# Altium schematic symbol library EsteemPCB_SOM_Course_schlib.SchLib: 243 symbols (part 2 of 3)
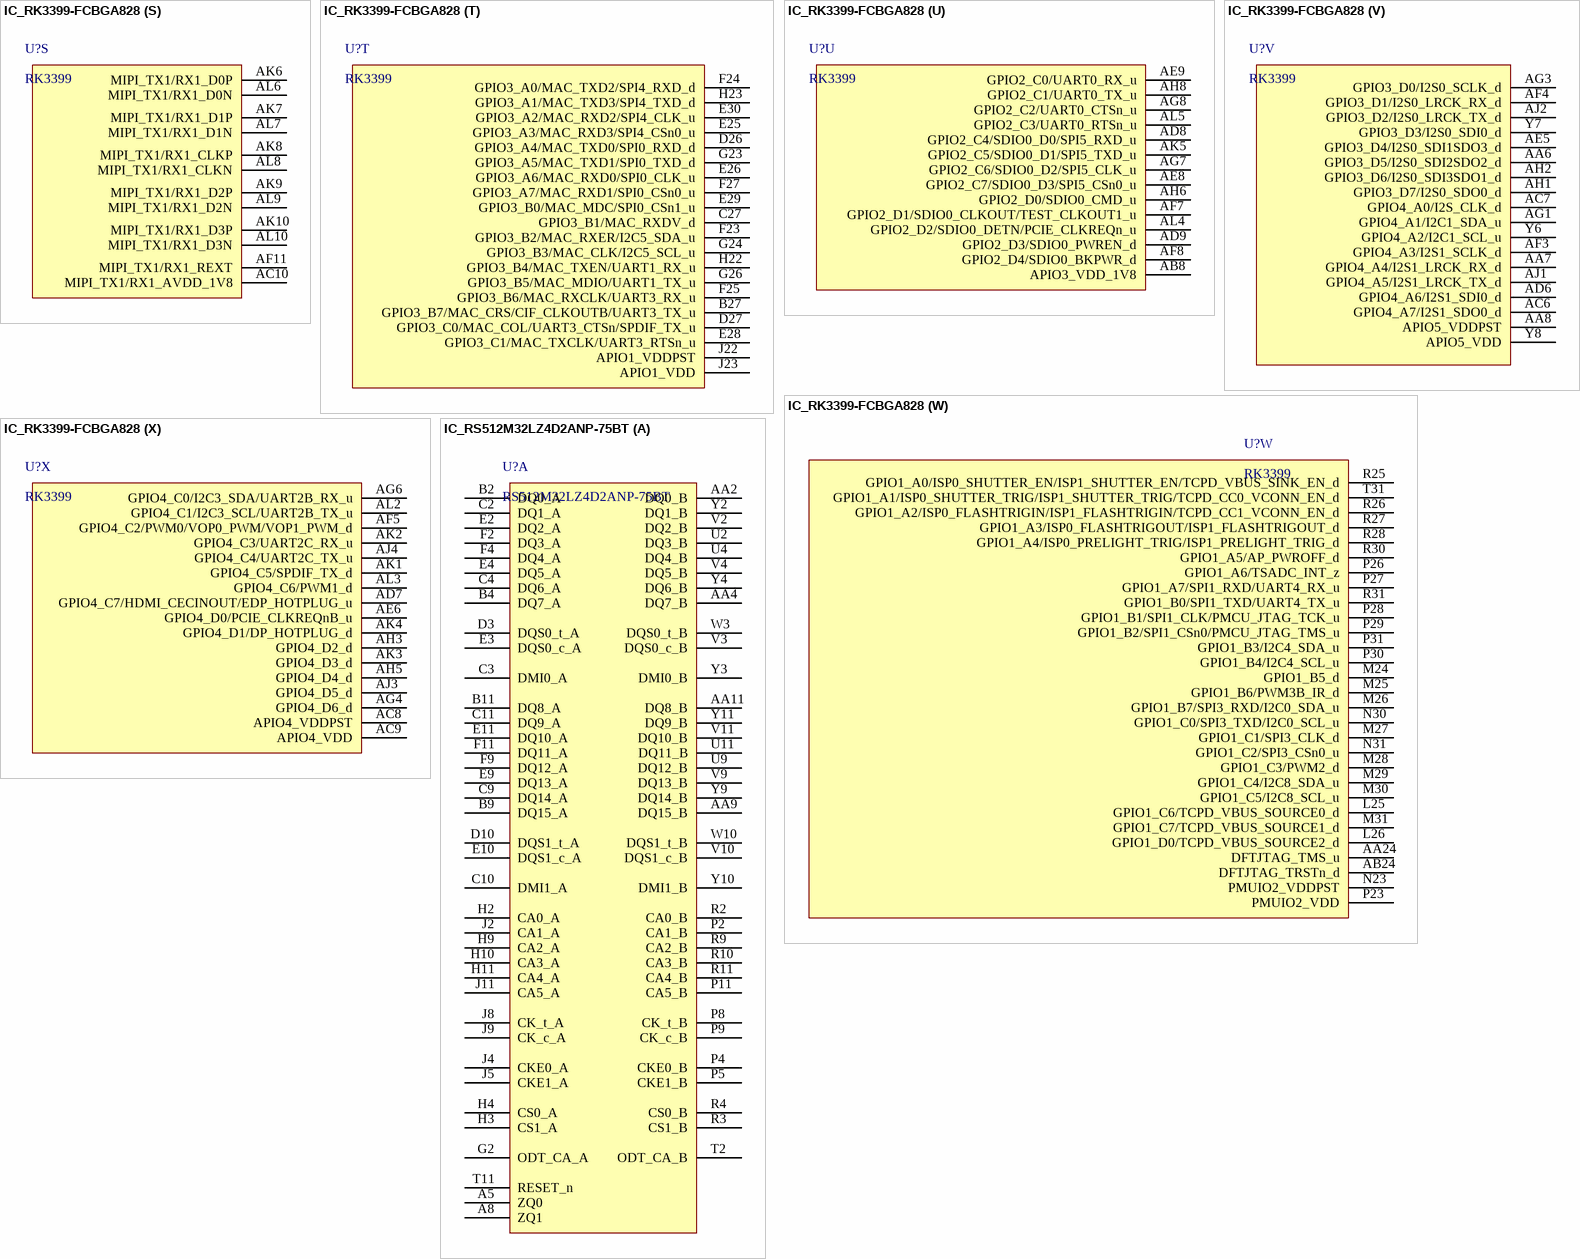
[diagram p11: symbols IC_RK3399-FCBGA828 to IC_RS512M32LZ4D2ANP-75BT]

## IC_RK3399-FCBGA828
designator U?, comment RK3399
RK3399 is a low power, high performance processor for computing, personal mobile.; Manufacturer: Rockchip; Manufacturer Part Number: RK3399; Case/Package: FCBGA828; Supplier-1: Rockchip
footprint FBGA828_23_826X826 (RK3399)
part A pins: K19 BIGCPU_VDD_12, K21 BIGCPU_VDD_13, L17 LOGIC_VDD_10, L18 BIGCPU_VDD_8, L19 BIGCPU_VDD_1, L21 BIGCPU_VDD_2, L23 BIGCPU_VDD_11, M11 CENTERLOGIC_VDD_1, M12 CENTERLOGIC_VDD_2, M13 CENTERLOGIC_VDD_3, M14 CENTERLOGIC_VDD_4, M15 CENTERLOGIC_VDD_5, M17 LOGIC_VDD_9, M18 BIGCPU_VDD_3, M19 BIGCPU_VDD_4, M20 BIGCPU_VDD_5, M21 BIGCPU_VDD_6, M22 BIGCPU_VDD_7, N11 CENTERLOGIC_VDD_6, N12 CENTERLOGIC_VDD_7, N18 BIGCPU_VDD_COM, N20 BIGCPU_VDD_10, N22 BIGCPU_VDD_9, P13 CENTERLOGIC_VDD_8, P14 CENTERLOGIC_VDD_9, P15 CENTERLOGIC_VDD_10, P20 LITCPU_VDD_1, P22 LITCPU_VDD_4, R11 GPU_VDD_8, R12 GPU_VDD_9, R13 GPU_VDD_13, R19 LITCPU_VDD_2, R20 LITCPU_VDD_3, R22 LITCPU_VDD_7, T11 GPU_VDD_10, T12 GPU_VDD_11, T13 GPU_VDD_12, T14 GPU_VDD_14, T15 GPU_VDD_COM, T17 LOGIC_VDD_11, T20 LITCPU_VDD_6, T22 LITCPU_VDD_5, U13 GPU_VDD_7, U17 LOGIC_VDD_8, U18 LOGIC_VDD_7, U20 LOGIC_VDD_12, V11 GPU_VDD_15, V12 GPU_VDD_16, V13 GPU_VDD_6, V14 GPU_VDD_5, V15 GPU_VDD_4, V16 GPU_VDD_17, V18 LOGIC_VDD_5, V19 LOGIC_VDD_4, V20 LOGIC_VDD_3, V21 LOGIC_VDD_2, V22 LOGIC_VDD_1, W10 GPU_VDD_20, W11 GPU_VDD_1, W12 GPU_VDD_2, W14 GPU_VDD_3, W15 GPU_VDD_19, W16 GPU_VDD_18, W20 LOGIC_VDD_6
part B pins: A1 VSS_1, A27 VSS_2, A31 VSS_3, AA3 VSS_4, AA5 VSS_5, AA9 VSS_6, AA10 VSS_179, AA11 AVSS_13, AA12 AVSS_17, AA13 VSS_177, AA14 AVSS_26, AA15 AVSS_53, AA23 AVSS_4, AA26 AVSS_6, AA29 AVSS_7, AB9 VSS_9, AB10 AVSS_12, AB11 AVSS_8, AB13 AVSS_9, AB15 AVSS_42, AB16 AVSS_41, AB17 AVSS_52, AB19 VSS_140, AB23 AVSS_5, AC3 VSS_16, AC11 AVSS_44, AC13 AVSS_45, AC15 AVSS_10, AC16 AVSS_18, AC17 AVSS_43, AC18 VSS_145, AC20 VSS_13, AC21 VSS_132, AC22 VSS_12, AC23 AVSS_19, AC25 AVSS_51, AC26 AVSS_14, AC29 AVSS_15, AD3 VSS_17, AD5 VSS_18, AD10 VSS_19, AD13 AVSS_11, AD17 AVSS_16, AD21 VSS_163, AD22 VSS_11, AD26 AVSS_40, AD29 AVSS_20, AE11 AVSS_21, AE12 AVSS_22, AE14 AVSS_23, AE17 AVSS_24, AE23 VSS_14, AE27 AVSS_25, AF9 VSS_20, AF17 AVSS_27, AF18 VSS_7, AF20 VSS_10, AF23 AVSS_2, AF24 AVSS_3, AF29 AVSS_28, AG2 VSS_21, AG29 AVSS_29, AH29 AVSS_30, AJ5 VSS_22, AJ6 AVSS_31, AJ8 AVSS_32, AJ9 AVSS_33, AJ11 AVSS_34, AJ12 AVSS_35, AJ14 AVSS_36, AJ15 AVSS_37, AJ17 AVSS_38, AJ18 AVSS_39, AJ20 VSS_180, AJ21 VSS_172, AJ23 VSS_173, AJ24 VSS_174, AJ26 VSS_175, AJ27 VSS_176, AJ28 VSS_171, AJ29 AVSS_47, AL1 VSS_23, AL31 VSS_178, B5 VSS_24, C8 VSS_25, C9 VSS_26, C11 VSS_27, C12 VSS_28, C14 VSS_29, C15 VSS_30, C17 VSS_31, C18 VSS_32, C20 VSS_33, C21 VSS_34, C23 VSS_35, C24 VSS_36, C26 VSS_37, D5 VSS_38, E2 VSS_39, E4 VSS_40, E7 VSS_41, E12 VSS_42, E15 VSS_43, E18 VSS_44, E21 VSS_45, E24 VSS_46, E31 VSS_47, F8 VSS_48, F15 VSS_49, F18 VSS_50, F20 VSS_51, F21 VSS_52, G5 VSS_53, G9 VSS_54, G18 VSS_55, G27 VSS_56, H3 VSS_57, H9 VSS_58, H10 VSS_59, H11 VSS_60, H12 VSS_61, H13 VSS_62, H15 VSS_63, H16 VSS_64, H17 VSS_65, H18 VSS_66, H26 VSS_67, J3 VSS_68, J6 VSS_69, J7 VSS_70, J8 VSS_71, J9 VSS_72, J10 VSS_73, K8 VSS_74, K9 VSS_75, K10 VSS_76, K12 VSS_77, K14 VSS_78, K16 VSS_79, K18 VSS_80, K20 VSS_82, K22 VSS_84, L3 VSS_85, L6 VSS_86, L8 VSS_87, L11 VSS_88, L12 VSS_89, L13 VSS_90, L14 VSS_91, L15 VSS_92, L16 VSS_93, L20 VSS_96, L22 VSS_97, L27 VSS_99, M3 VSS_100, M8 VSS_101, M10 VSS_102, M16 VSS_103, M23 VSS_104, N8 VSS_105, N13 VSS_108, N14 VSS_109, N15 VSS_110, N16 VSS_111, N17 VSS_94, N19 VSS_83, N21 VSS_98, P3 VSS_112, P6 VSS_113, P7 VSS_114, P8 VSS_115, P10 VSS_116, P11 VSS_106, P12 VSS_107, P16 VSS_117, P19 VSS_119, P21 VSS_121, R3 VSS_123, R5 VSS_124, R6 VSS_125, R14 VSS_129, R15 VSS_130, R16 VSS_131, R18 VSS_165, R21 VSS_120, R23 VSS_133, T8 VSS_134, T10 VSS_135, T16 VSS_138, T18 VSS_168, T19 VSS_122, T21 VSS_139, U3 VSS_141, U8 VSS_142, U11 VSS_126, U12 VSS_127, U14 VSS_137, U15 VSS_143, U16 VSS_144, U19 VSS_146, U21 VSS_147, U22 VSS_149, U23 AVSS_49, U29 VSS_150, V3 VSS_151, V5 VSS_152, V8 VSS_153, V10 VSS_154, V17 VSS_148, V23 AVSS_50, W8 VSS_161, W9 VSS_162, W13 VSS_128, W17 VSS_159, W18 VSS_169, W19 VSS_167, W21 VSS_81, W22 VSS_158, W23 AVSS_46, W30 VSS_160, Y3 VSS_8, Y9 VSS_166, Y10 VSS_15, Y11 VSS_155, Y12 VSS_136, Y13 VSS_164, Y14 VSS_156, Y15 VSS_157, Y16 VSS_118, Y17 VSS_95, Y20 VSS_170, Y23 AVSS_1
part C pins: AA25 GPIO0_A4/SDIO0_INTn_d, AD23 EFUSE_VQPS, N24 GPIO0_A2/WIFI_26MHz_d, P17 PLL_AVSS, P18 PLL_AVDD_1V8, P24 GPIO0_B5/TCPD_VBUS_FDIS/TCPD_VBUS_SOURCE3_d, P25 GPIO0_A6/PWM3A_IR_d, R17 PLL_AVDD_0V9, R24 PMUIO1_VDD_1V8, R29 GPIO0_A1/DDRIO_PWROFF/TCPD_CCDB_EN_u, T24 PMU_VDD_0V9, T30 nPOR_u, U25 PMU_VDD_1V8, U28 GPIO0_B0/SDMMC0_WRPT/TEST_CLKOUT2_u, U30 GPIO0_B3_d, U31 GPIO0_A0/TEST_CLKOUT0/CLK32K_IN_u, V26 GPIO0_B4/TCPD_VBUS_BDIS_d, V27 GPIO0_A5/EMMC_PWRON_u, V28 GPIO0_A7/SDMMC0_DET_u, V30 GPIO0_B1/PMUIO2_VOLSEL_d, V31 GPIO0_A3/SDIO0_WRPT_d, W31 GPIO0_B2_d, Y29 AVSS_48, Y30 XOUT_OSC, Y31 XIN_OSC
part D pins: A2 DDR1_CSn1, A3 DDR1_A12, A4 DDR1_A10, A5 DDR1_CKE0, A6 DDR1_A9, A7 DDR1_A7, A8 DDR1_A5, A9 DDR1_A3, A10 DDR1_A1, A11 DDR1_DQ10, A12 DDR1_DQ12, A13 DDR1_DQ13, A14 DDR1_DQ14, A15 DDR1_DQ1, A16 DDR1_DQ3, A17 DDR1_DQ5, A18 DDR1_DQ6, A19 DDR1_DQ16, A20 DDR1_DQ18, A21 DDR1_DQ20, A22 DDR1_DQ23, A23 DDR1_DQ24, A24 DDR1_DQ26, A25 DDR1_DQ27, A26 DDR1_DQ29, B2 DDR1_BA0, B3 DDR1_CSn3, B4 DDR1_A13, B6 DDR1_A8, B7 DDR1_A6, B8 DDR1_A4, B9 DDR1_A2, B10 DDR1_A0, B11 DDR1_DQ8, B12 DDR1_DQ9, B13 DDR1_DQ11, B14 DDR1_DQ15, B15 DDR1_DQ0, B16 DDR1_DQ2, B17 DDR1_DQ4, B18 DDR1_DQ7, B19 DDR1_DQ17, B20 DDR1_DQ19, B21 DDR1_DQ21, B22 DDR1_DQ22, B23 DDR1_DQ25, B24 DDR1_DQ28, B25 DDR1_DQ30, B26 DDR1_DQ31, C4 DDR1_A14, C5 DDR1_A11, C6 DDR1_RASn, D6 DDR1_BA1, D8 DDR1_CLK0N, D9 DDR1_CLK0P, D11 DDR1_ODT0, D12 DDR1_BA2, D14 DDR1_DQS1N, D15 DDR1_DQS1P, D17 DDR1_DQS0N, D18 DDR1_DQS0P, D20 DDR1_DQS2N, D21 DDR1_DQS2P, D23 DDR1_DQS3N, D24 DDR1_DQS3P, E6 DDR1_CKE1, E8 DDR1_CLK1N, E9 DDR1_CLK1P, E11 DDR1_ODT1, E14 DDR1_DM1, E17 DDR1_DM0, E20 DDR1_DM2, E23 DDR1_DM3, F7 DDR1_WEn, F9 DDR1_CASn, F11 DDR1_CSn2, F12 DDR1_CSn0, F14 DDR1_PLL_TESTOUT_P, F17 DDR1_ATB0, G8 DDR1_A15, G11 DDR1_RESET, G12 DDR1_CLK_VDD, G14 DDR1_PLL_TESTOUT_N, G15 DDR1_PZQ, G17 DDR1_ATB1, H14 DDR1PLL_AVDD_0V9, J11 DDR1_VDD_1, J12 DDR1_VDD_2, J13 DDR1_VDD_3, J14 DDR1_VDD_4, J15 DDR1_VDD_5, J16 DDR1_VDD_6, J17 DDR1_VDD_7, J18 DDR1_VDD_8, K11 DDR1_VDD_9, K13 DDR1_VDD_10, K15 DDR1_VDD_11, K17 DDR1_VDD_12
part E pins: AA1 DDR0_DQ3, AA2 DDR0_DQ2, AA4 DDR0_DQS0N, AB1 DDR0_DQ1, AB2 DDR0_DQ0, AC1 DDR0_DQ14, AC2 DDR0_DQ15, AC4 DDR0_DQS1P, AC5 DDR0_DM1, AD1 DDR0_DQ13, AD2 DDR0_DQ11, AD4 DDR0_DQS1N, AE1 DDR0_DQ12, AE2 DDR0_DQ9, AF1 DDR0_DQ10, AF2 DDR0_DQ8, B1 DDR0_CSn1, C1 DDR0_A12, C2 DDR0_CSn3, C3 DDR0_BA0, D1 DDR0_A10, D2 DDR0_A13, D3 DDR0_A14, E1 DDR0_CKE0, E3 DDR0_A11, F1 DDR0_A1, F2 DDR0_A0, F3 DDR0_RASn, F4 DDR0_BA1, F5 DDR0_CKE1, G1 DDR0_A2, G2 DDR0_A3, G6 DDR0_WEn, H1 DDR0_A5, H2 DDR0_A4, H4 DDR0_CLK0P, H5 DDR0_CLK1P, H6 DDR0_CASn, H7 DDR0_A15, J1 DDR0_A6, J2 DDR0_A7, J4 DDR0_CLK0N, J5 DDR0_CLK1N, K1 DDR0_A9, K2 DDR0_A8, L1 DDR0_DQ29, L2 DDR0_DQ31, L4 DDR0_ODT0, L5 DDR0_ODT1, L7 DDR0_RESET, L9 DDR0_VDD_1, L10 DDR0_VDD_2, M1 DDR0_DQ27, M2 DDR0_DQ30, M4 DDR0_BA2, M5 DDR0_CSn2, M6 DDR0_CSn0, M7 DDR0_CLK_VDD, M9 DDR0_VDD_3, N1 DDR0_DQ26, N2 DDR0_DQ28, N9 DDR0_VDD_4, N10 DDR0_VDD_5, P1 DDR0_DQ24, P2 DDR0_DQ25, P4 DDR0_DQS3P, P5 DDR0_DM3, P9 DDR0_VDD_6, R1 DDR0_DQ23, R2 DDR0_DQ22, R4 DDR0_DQS3N, R7 DDR0_PZQ, R8 DDR0PLL_AVDD_0V9, R9 DDR0_VDD_7, R10 DDR0_VDD_8, T1 DDR0_DQ20, T2 DDR0_DQ21, T9 DDR0_VDD_9, U1 DDR0_DQ18, U2 DDR0_DQ19, U4 DDR0_DQS2P, U5 DDR0_DM2, U6 DDR0_ATB0, U7 DDR0_ATB1, U9 DDR0_VDD_10, U10 DDR0_VDD_11, V1 DDR0_DQ16, V2 DDR0_DQ17, V4 DDR0_DQS2N, V6 DDR0_PLL_TESTOUT_P, V7 DDR0_PLL_TESTOUT_N, V9 DDR0_VDD_12, W1 DDR0_DQ6, W2 DDR0_DQ7, Y1 DDR0_DQ5, Y2 DDR0_DQ4, Y4 DDR0_DQS0P, Y5 DDR0_DM0
part F pins: J25 EMMC_D3, J26 EMMC_D4, J27 EMMC_D5, J28 EMMC_D0, J29 EMMC_D1, J30 EMMC_D2, J31 EMMC_CMD, K24 EMMC_VDD_1V8, K30 EMMC_D7, K31 EMMC_STRB, L24 EMMC_COREDLL_0V9, L28 EMMC_CLK, L29 EMMC_CALIO, L30 EMMC_TP, L31 EMMC_D6
part G pins: T23 SDMMC0_VDD, U26 SDMMC0_VDDPST, U27 GPIO4_B3/SDMMC0_D3/APJTAG_TMS_u, V25 GPIO4_B5/SDMMC0_CMD/MCUJTAG_TMS_u, V29 GPIO4_B4/SDMMC0_CLKOUT/MUCJTAG_TCK_d, Y26 GPIO4_B1/SDMMC0_D1/UART2A_TX_u, Y27 GPIO4_B0/SDMMC0_D0/UART2A_RX_u, Y28 GPIO4_B2/SDMMC0_D2/APJTAG_TCK_u
part H pins: AA27 PCIE_TX2_P, AA28 PCIE_TX2_N, AC27 PCIE_RX2_P, AC28 PCIE_RX2_N, AD27 PCIE_TX3_P, AD28 PCIE_TX3_N, AD30 PCIE_RCLK_100M_N, AD31 PCIE_RCLK_100M_P, AE30 PCIE_TX0_P, AE31 PCIE_TX0_N, AF27 PCIE_RX3_P, AF28 PCIE_RX3_N, AF30 PCIE_RX0_P, AF31 PCIE_RX0_N, AG30 PCIE_TX1_P, AG31 PCIE_TX1_N, AH30 PCIE_RX1_P, AH31 PCIE_RX1_N, W24 PCIE_AVDD_0V9, Y24 PCIE_AVDD_1V8
part I pins: AC24 ADC_AVDD, AG25 ADC_IN2, AG26 ADC_IN0, AG28 ADC_IN3, AH26 ADC_IN1, AH27 ADC_IN4
part J pins: AA16 HDMI_AVDD_0V9_1, AA17 HDMI_AVDD_0V9_2, AD16 HDMI_AVDD_1V8, AE15 HDMI_HPD, AF15 HDMI_REXT, AK16 HDMI_TCP, AK17 HDMI_TX0P, AK18 HDMI_TX1P, AK19 HDMI_TX2P, AL16 HDMI_TCN, AL17 HDMI_TX0N, AL18 HDMI_TX1N, AL19 HDMI_TX2N
part K pins: AB12 MIPI_TX0_AVDD_1V8, AF12 MIPI_TX0_REXT, AG9 MIPI_TX0_D3P, AG11 MIPI_TX0_D2P, AG12 MIPI_TX0_CLKP, AG14 MIPI_TX0_D1P, AG15 MIPI_TX0_D0P, AH9 MIPI_TX0_D3N, AH11 MIPI_TX0_D2N, AH12 MIPI_TX0_CLKN, AH14 MIPI_TX0_D1N, AH15 MIPI_TX0_D0N
part L pins: A28 EDP_AUXN, A29 EDP_TX0N, A30 EDP_TX1N, B28 EDP_AUXP, B29 EDP_TX0P, B30 EDP_TX1P, B31 EDP_AVSS_1, C28 EDP_AVSS_2, C29 EDP_AVSS_3, C30 EDP_TX2P, C31 EDP_TX2N, D29 EDP_AVSS_4, D30 EDP_TX3P, D31 EDP_TX3N, G20 EDP_DC_TP, G21 EDP_REXT, H19 EDP_AVSS_5, H20 EDP_AVDD_0V9, H21 EDP_CLK24M_IN, J19 EDP_AVDD_1V8_1, J20 EDP_AVDD_1V8_2, J21 EDP_AVSS_6
part M pins: AA30 HOST1_DP, AA31 HOST1_DM, AB30 HOST0_DP, AB31 HOST0_DM, AC30 USB1_RBIAS, AC31 USB0_RBIAS, AE26 TYPEC1_ID, AG23 TYPEC0_DP, AG24 TYPEC1_DP, AH23 TYPEC0_DM, AH24 TYPEC1_DM, AK30 TYPEC0_U2VBUSDET, AK31 TYPEC1_U2VBUSDET, AL30 TYPEC0_ID, U24 USB_AVDD_1V8, V24 USB_AVDD_0V9, Y25 USB_AVDD_3V3
part N pins: AA21 TYPEC1_AVDD_1V8, AB21 TYPEC1_AVDD_3V3, AC19 TYPEC1_U3VBUSDET, AD20 TYPEC1_RCLKM, AE20 TYPEC1_RCLKP, AE21 TYPEC1_REXT, AE24 TYPEC1_AUXP_PD_PU, AF21 TYPEC1_CC2, AF25 TYPEC1_AUXM_PU_PD, AG21 TYPEC1_REXT_CC, AH21 TYPEC1_CC1, AK25 TYPEC1_RX1P, AK26 TYPEC1_TX1M, AK27 TYPEC1_RX2P, AK28 TYPEC1_TX2M, AK29 TYPEC1_AUXP, AL25 TYPEC1_RX1M, AL26 TYPEC1_TX1P, AL27 TYPEC1_RX2M, AL28 TYPEC1_TX2P, AL29 TYPEC1_AUXM, Y21 TYPEC1_AVDD_0V9_1, Y22 TYPEC1_AVDD_0V9_2
part O pins: AA18 TYPEC0_AVDD_1V8, AB18 TYPEC0_AVDD_3V3, AD18 TYPEC0_RCLKM, AD19 TYPEC0_U3VBUSDET, AE18 TYPEC0_RCLKP, AG17 TYPEC0_AUXM_PU_PD, AG18 TYPEC0_REXT, AG20 TYPEC0_REXT_CC, AH17 TYPEC0_AUXP_PD_PU, AH18 TYPEC0_CC1, AH20 TYPEC0_CC2, AK20 TYPEC0_AUXP, AK21 TYPEC0_RX1P, AK22 TYPEC0_TX1M, AK23 TYPEC0_RX2P, AK24 TYPEC0_TX2M, AL20 TYPEC0_AUXM, AL21 TYPEC0_RX1M, AL22 TYPEC0_TX1P, AL23 TYPEC0_RX2M, AL24 TYPEC0_TX2P, Y18 TYPEC0_AVDD_0V9_2, Y19 TYPEC0_AVDD_0V9_1
part P pins: AD24 USIC_AVDD_1V2, AD25 USIC_AVDD_0V9, AJ30 USIC_STROBE, AJ31 USIC_DATA
part Q pins: F28 GPIO2_A3/VOP_D3/CIF_D3_d, F29 GPIO2_A5/VOP_D5/CIF_D5_d, F30 GPIO2_B1/SPI2_RXD/CIF_HREF/I2C6_SDA_u, F31 GPIO2_B4/SPI2_CSn0_u, G30 GPIO2_A7/VOP_D7/CIF_D7/I2C7_SDA_u, G31 GPIO2_A0/VOP_D0/CIF_D0/I2C2_SDA_u, H24 GPIO2_B2/SPI2_TXD/CIF_CLKIN/I2C6_SCL_u, H25 GPIO2_A1/VOP_D1/CIF_D1/I2C2_SCL_u, H27 GPIO2_A6/VOP_D6/CIF_D6_d, H28 GPIO2_B0/VOP_CLK/CIF_VSYNC/I2C7_SCL_u, H29 GPIO2_A4/VOP_D4/CIF_D4_d, H30 GPIO2_A2/VOP_D2/CIF_D2_d, H31 GPIO2_B3/SPI2_CLK/VOP_DEN/CIF_CLKOUTA_u, J24 APIO2_VDDPST, K23 APIO2_VDD
part R pins: AB14 MIPI_RX0_AVDD_1V8, AF14 MIPI_RX0_REXT, AK11 MIPI_RX0_D3P, AK12 MIPI_RX0_D2P, AK13 MIPI_RX0_CLKP, AK14 MIPI_RX0_D1P, AK15 MIPI_RX0_D0P, AL11 MIPI_RX0_D3N, AL12 MIPI_RX0_D2N, AL13 MIPI_RX0_CLKN, AL14 MIPI_RX0_D1N, AL15 MIPI_RX0_D0N
part S pins: AC10 MIPI_TX1/RX1_AVDD_1V8, AF11 MIPI_TX1/RX1_REXT, AK6 MIPI_TX1/RX1_D0P, AK7 MIPI_TX1/RX1_D1P, AK8 MIPI_TX1/RX1_CLKP, AK9 MIPI_TX1/RX1_D2P, AK10 MIPI_TX1/RX1_D3P, AL6 MIPI_TX1/RX1_D0N, AL7 MIPI_TX1/RX1_D1N, AL8 MIPI_TX1/RX1_CLKN, AL9 MIPI_TX1/RX1_D2N, AL10 MIPI_TX1/RX1_D3N
part T pins: B27 GPIO3_B7/MAC_CRS/CIF_CLKOUTB/UART3_TX_u, C27 GPIO3_B1/MAC_RXDV_d, D26 GPIO3_A4/MAC_TXD0/SPI0_RXD_d, D27 GPIO3_C0/MAC_COL/UART3_CTSn/SPDIF_TX_u, E25 GPIO3_A3/MAC_RXD3/SPI4_CSn0_u, E26 GPIO3_A6/MAC_RXD0/SPI0_CLK_u, E28 GPIO3_C1/MAC_TXCLK/UART3_RTSn_u, E29 GPIO3_B0/MAC_MDC/SPI0_CSn1_u, E30 GPIO3_A2/MAC_RXD2/SPI4_CLK_u, F23 GPIO3_B2/MAC_RXER/I2C5_SDA_u, F24 GPIO3_A0/MAC_TXD2/SPI4_RXD_d, F25 GPIO3_B6/MAC_RXCLK/UART3_RX_u, F27 GPIO3_A7/MAC_RXD1/SPI0_CSn0_u, G23 GPIO3_A5/MAC_TXD1/SPI0_TXD_d, G24 GPIO3_B3/MAC_CLK/I2C5_SCL_u, G26 GPIO3_B5/MAC_MDIO/UART1_TX_u, H22 GPIO3_B4/MAC_TXEN/UART1_RX_u, H23 GPIO3_A1/MAC_TXD3/SPI4_TXD_d, J22 APIO1_VDDPST, J23 APIO1_VDD
part U pins: AB8 APIO3_VDD_1V8, AD8 GPIO2_C4/SDIO0_D0/SPI5_RXD_u, AD9 GPIO2_D3/SDIO0_PWREN_d, AE8 GPIO2_C7/SDIO0_D3/SPI5_CSn0_u, AE9 GPIO2_C0/UART0_RX_u, AF7 GPIO2_D1/SDIO0_CLKOUT/TEST_CLKOUT1_u, AF8 GPIO2_D4/SDIO0_BKPWR_d, AG7 GPIO2_C6/SDIO0_D2/SPI5_CLK_u, AG8 GPIO2_C2/UART0_CTSn_u, AH6 GPIO2_D0/SDIO0_CMD_u, AH8 GPIO2_C1/UART0_TX_u, AK5 GPIO2_C5/SDIO0_D1/SPI5_TXD_u, AL4 GPIO2_D2/SDIO0_DETN/PCIE_CLKREQn_u, AL5 GPIO2_C3/UART0_RTSn_u
part V pins: AA6 GPIO3_D5/I2S0_SDI2SDO2_d, AA7 GPIO4_A4/I2S1_LRCK_RX_d, AA8 APIO5_VDDPST, AC6 GPIO4_A7/I2S1_SDO0_d, AC7 GPIO4_A0/I2S_CLK_d, AD6 GPIO4_A6/I2S1_SDI0_d, AE5 GPIO3_D4/I2S0_SDI1SDO3_d, AF3 GPIO4_A3/I2S1_SCLK_d, AF4 GPIO3_D1/I2S0_LRCK_RX_d, AG1 GPIO4_A1/I2C1_SDA_u, AG3 GPIO3_D0/I2S0_SCLK_d, AH1 GPIO3_D7/I2S0_SDO0_d, AH2 GPIO3_D6/I2S0_SDI3SDO1_d, AJ1 GPIO4_A5/I2S1_LRCK_TX_d, AJ2 GPIO3_D2/I2S0_LRCK_TX_d, Y6 GPIO4_A2/I2C1_SCL_u, Y7 GPIO3_D3/I2S0_SDI0_d, Y8 APIO5_VDD
part W pins: AA24 DFTJTAG_TMS_u, AB24 DFTJTAG_TRSTn_d, L25 GPIO1_C6/TCPD_VBUS_SOURCE0_d, L26 GPIO1_D0/TCPD_VBUS_SOURCE2_d, M24 GPIO1_B5_d, M25 GPIO1_B6/PWM3B_IR_d, M26 GPIO1_B7/SPI3_RXD/I2C0_SDA_u, M27 GPIO1_C1/SPI3_CLK_d, M28 GPIO1_C3/PWM2_d, M29 GPIO1_C4/I2C8_SDA_u, M30 GPIO1_C5/I2C8_SCL_u, M31 GPIO1_C7/TCPD_VBUS_SOURCE1_d, N23 PMUIO2_VDDPST, N30 GPIO1_C0/SPI3_TXD/I2C0_SCL_u, N31 GPIO1_C2/SPI3_CSn0_u, P23 PMUIO2_VDD, P26 GPIO1_A6/TSADC_INT_z, P27 GPIO1_A7/SPI1_RXD/UART4_RX_u, P28 GPIO1_B1/SPI1_CLK/PMCU_JTAG_TCK_u, P29 GPIO1_B2/SPI1_CSn0/PMCU_JTAG_TMS_u, P30 GPIO1_B4/I2C4_SCL_u, P31 GPIO1_B3/I2C4_SDA_u, R25 GPIO1_A0/ISP0_SHUTTER_EN/ISP1_SHUTTER_EN/TCPD_VBUS_SINK_EN_d, R26 GPIO1_A2/ISP0_FLASHTRIGIN/ISP1_FLASHTRIGIN/TCPD_CC1_VCONN_EN_d, R27 GPIO1_A3/ISP0_FLASHTRIGOUT/ISP1_FLASHTRIGOUT_d, R28 GPIO1_A4/ISP0_PRELIGHT_TRIG/ISP1_PRELIGHT_TRIG_d, R30 GPIO1_A5/AP_PWROFF_d, R31 GPIO1_B0/SPI1_TXD/UART4_TX_u, T31 GPIO1_A1/ISP0_SHUTTER_TRIG/ISP1_SHUTTER_TRIG/TCPD_CC0_VCONN_EN_d
part X pins: AC8 APIO4_VDDPST, AC9 APIO4_VDD, AD7 GPIO4_C7/HDMI_CECINOUT/EDP_HOTPLUG_u, AE6 GPIO4_D0/PCIE_CLKREQnB_u, AF5 GPIO4_C2/PWM0/VOP0_PWM/VOP1_PWM_d, AG4 GPIO4_D6_d, AG6 GPIO4_C0/I2C3_SDA/UART2B_RX_u, AH3 GPIO4_D2_d, AH5 GPIO4_D4_d, AJ3 GPIO4_D5_d, AJ4 GPIO4_C4/UART2C_TX_u, AK1 GPIO4_C5/SPDIF_TX_d, AK2 GPIO4_C3/UART2C_RX_u, AK3 GPIO4_D3_d, AK4 GPIO4_D1/DP_HOTPLUG_d, AL2 GPIO4_C1/I2C3_SCL/UART2B_TX_u, AL3 GPIO4_C6/PWM1_d
part A text: POWER IN; Little CPU VDD

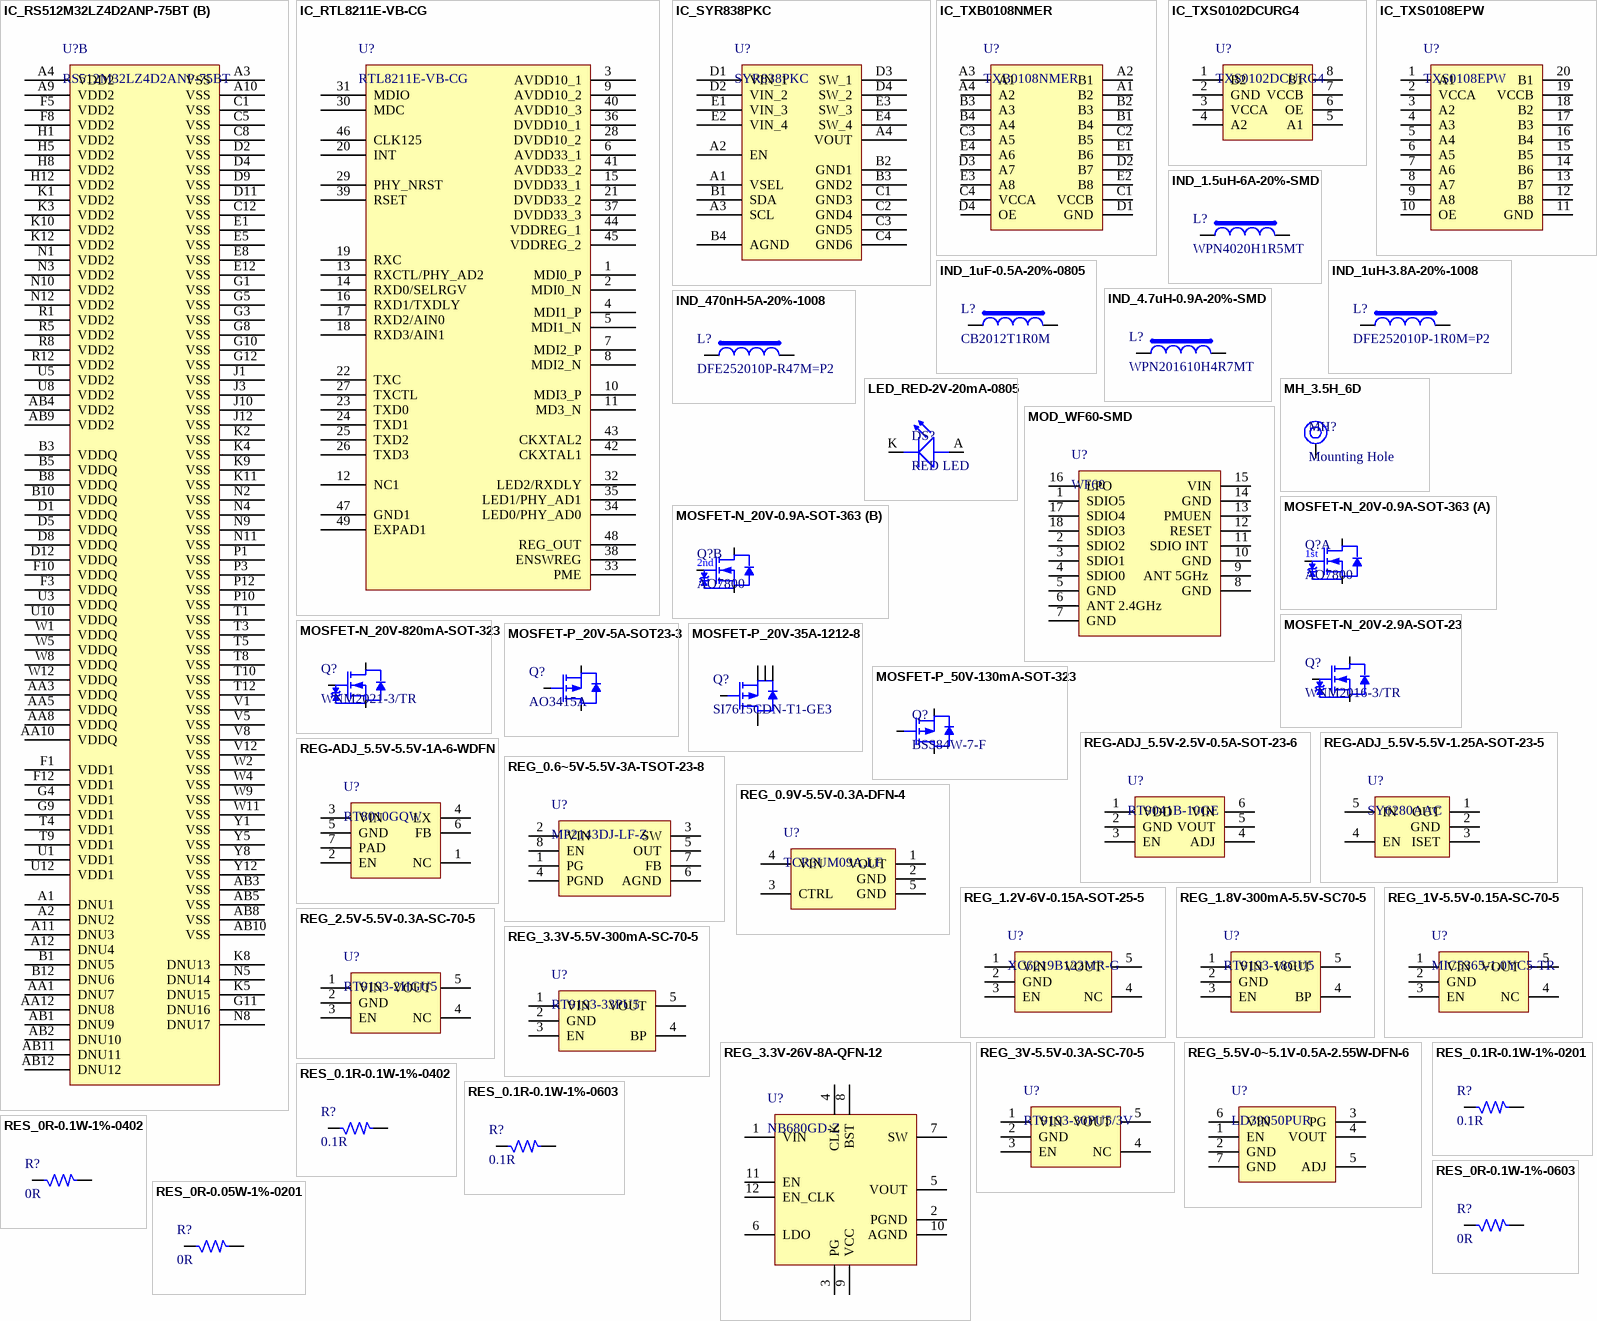
[diagram p7: symbols IC_RS512M32LZ4D2ANP-75BT to RES_0R-0.05W-1%-0201]

## IC_RS512M32LZ4D2ANP-75BT
designator U?, comment RS512M32LZ4D2ANP-75BT
LPDDR4/4X Package FBGA 200b Density 4Gbit~64Gbit Operating Temperature Range：-25~85℃ Speed：2667Mbps/3200Mbps/3733Mbps Voltage：VDD1/VDD2/VDDQ= 1.8 / 1.1 / 1.1 V（LPDDR4）VDD1/VDD2/VDDQ = 1.8 / 1.1 / 0.6 V（LPDDR4X）Approved Verification Platform：MTK、Spreadtrum; Manufacturer: RAYSON; Manufacturer Part Number: RS512M32LZ4D2ANP-75BT; Case/Package: FBGA 200b; Supplier-1: RAYSON
footprint FBGA200_SMD
part A pins: A5 ZQ0, A8 ZQ1, AA2 DQ0_B, AA4 DQ7_B, AA9 DQ15_B, AA11 DQ8_B, B2 DQ0_A, B4 DQ7_A, B9 DQ15_A, B11 DQ8_A, C2 DQ1_A, C3 DMI0_A, C4 DQ6_A, C9 DQ14_A, C10 DMI1_A, C11 DQ9_A, D3 DQS0_t_A, D10 DQS1_t_A, E2 DQ2_A, E3 DQS0_c_A, E4 DQ5_A, E9 DQ13_A, E10 DQS1_c_A, E11 DQ10_A, F2 DQ3_A, F4 DQ4_A, F9 DQ12_A, F11 DQ11_A, G2 ODT_CA_A, H2 CA0_A, H3 CS1_A, H4 CS0_A, H9 CA2_A, H10 CA3_A, H11 CA4_A, J2 CA1_A, J4 CKE0_A, J5 CKE1_A, J8 CK_t_A, J9 CK_c_A, J11 CA5_A, P2 CA1_B, P4 CKE0_B, P5 CKE1_B, P8 CK_t_B, P9 CK_c_B, P11 CA5_B, R2 CA0_B, R3 CS1_B, R4 CS0_B, R9 CA2_B, R10 CA3_B, R11 CA4_B, T2 ODT_CA_B, T11 RESET_n, U2 DQ3_B, U4 DQ4_B, U9 DQ12_B, U11 DQ11_B, V2 DQ2_B, V3 DQS0_c_B, V4 DQ5_B, V9 DQ13_B, V10 DQS1_c_B, V11 DQ10_B, W3 DQS0_t_B, W10 DQS1_t_B, Y2 DQ1_B, Y3 DMI0_B, Y4 DQ6_B, Y9 DQ14_B, Y10 DMI1_B, Y11 DQ9_B
part B pins: A1 DNU1, A2 DNU2, A3 VSS, A4 VDD2, A9 VDD2, A10 VSS, A11 DNU3, A12 DNU4, AA1 DNU7, AA3 VDDQ, AA5 VDDQ, AA8 VDDQ, AA10 VDDQ, AA12 DNU8, AB1 DNU9, AB2 DNU10, AB3 VSS, AB4 VDD2, AB5 VSS, AB8 VSS, AB9 VDD2, AB10 VSS, AB11 DNU11, AB12 DNU12, B1 DNU5, B3 VDDQ, B5 VDDQ, B8 VDDQ, B10 VDDQ, B12 DNU6, C1 VSS, C5 VSS, C8 VSS, C12 VSS, D1 VDDQ, D2 VSS, D4 VSS, D5 VDDQ, D8 VDDQ, D9 VSS, D11 VSS, D12 VDDQ, E1 VSS, E5 VSS, E8 VSS, E12 VSS, F1 VDD1, F3 VDDQ, F5 VDD2, F8 VDD2, F10 VDDQ, F12 VDD1, G1 VSS, G3 VSS, G4 VDD1, G5 VSS, G8 VSS, G9 VDD1, G10 VSS, G11 DNU16, G12 VSS, H1 VDD2, H5 VDD2, H8 VDD2, H12 VDD2, J1 VSS, J3 VSS, J10 VSS, J12 VSS, K1 VDD2, K2 VSS, K3 VDD2, K4 VSS, K5 DNU15, K8 DNU13, K9 VSS, K10 VDD2, K11 VSS, K12 VDD2, N1 VDD2, N2 VSS, N3 VDD2, N4 VSS, N5 DNU14, N8 DNU17, N9 VSS, N10 VDD2, N11 VSS, N12 VDD2, P1 VSS, P3 VSS, P10 VSS, P12 VSS, R1 VDD2, R5 VDD2, R8 VDD2, R12 VDD2, T1 VSS, T3 VSS, T4 VDD1, T5 VSS, T8 VSS, T9 VDD1, T10 VSS, T12 VSS, U1 VDD1, U3 VDDQ, U5 VDD2, U8 VDD2, U10 VDDQ, U12 VDD1, V1 VSS, V5 VSS, V8 VSS, V12 VSS, W1 VDDQ, W2 VSS, W4 VSS, W5 VDDQ, W8 VDDQ, W9 VSS, W11 VSS, W12 VDDQ, Y1 VSS, Y5 VSS, Y8 VSS, Y12 VSS

## IC_RTL8211E-VB-CG
designator U?, comment RTL8211E-VB-CG
Ethernet Transceivers 10/100/1000 Base-T PHY GMII, MII, RGMII 1.43V ~ 3.63V QFN-48_6x6x04P Ethernet ICs RoHS; Manufacturer: Realtek Semicon; Manufacturer Part Number: RTL8211E-VB-CG; Case/Package: QFN-48; Supplier-1: LCSC
footprint QFN48_19.6_324X324_SMD (QFN Package)
pins: 1 MDI0_P, 2 MDI0_N, 3 AVDD10_1, 4 MDI1_P, 5 MDI1_N, 6 AVDD33_1, 7 MDI2_P, 8 MDI2_N, 9 AVDD10_2, 10 MDI3_P, 11 MD3_N, 12 NC1, 13 RXCTL/PHY_AD2, 14 RXD0/SELRGV, 15 DVDD33_1, 16 RXD1/TXDLY, 17 RXD2/AIN0, 18 RXD3/AIN1, 19 RXC, 20 INT, 21 DVDD33_2, 22 TXC, 23 TXD0, 24 TXD1, 25 TXD2, 26 TXD3, 27 TXCTL, 28 DVDD10_2, 29 PHY_NRST, 30 MDC, 31 MDIO, 32 LED2/RXDLY, 33 PME, 34 LED0/PHY_AD0, 35 LED1/PHY_AD1, 36 DVDD10_1, 37 DVDD33_3, 38 ENSWREG, 39 RSET, 40 AVDD10_3, 41 AVDD33_2, 42 CKXTAL1, 43 CKXTAL2, 44 VDDREG_1, 45 VDDREG_2, 46 CLK125, 47 GND1, 48 REG_OUT, 49 EXPAD1

## IC_SYR838PKC
designator U?, comment SYR838PKC
Step-Down Positive Programmable 1 6A 2.4MHz CSP1.56*1.96-20 DC-DC Converters RoHS; Manufacturer: Silergy Corp; Manufacturer Part Number: SYR838PKC; Case/Package: CSP1.56*1.96-20; Supplier-1: LCSC
footprint CSP20_15.7_100x84_SMD (CSP Package)
pins: A1 VSEL, A2 EN, A3 SCL, A4 VOUT, B1 SDA, B2 GND1, B3 GND2, B4 AGND, C1 GND3, C2 GND4, C3 GND5, C4 GND6, D1 VIN_1, D2 VIN_2, D3 SW_1, D4 SW_2, E1 VIN_3, E2 VIN_4, E3 SW_3, E4 SW_4

## IC_TXB0108NMER
designator U?, comment TXB0108NMER
Translation - Voltage Levels 8-Bit Bidirectional Voltage-Level Shifter with Auto Direction Sensing and +/-15-kV ESD Protect; Manufacturer: Texas Instruments; Manufacturer Part Number: TXB0108NMER; Case/Package: NFBGA-20; Supplier-1: Mouser
footprint NFBGA_31.4_125.9X102.36 (BGA, 20-Leads, Body 3.00x2.50mmx0.80mm, Pitch 0.50mm)
pins: A1 B2, A2 B1, A3 A1, A4 A2, B1 B4, B2 B3, B3 A3, B4 A4, C1 VCCB, C2 B5, C3 A5, C4 VCCA, D1 GND, D2 B7, D3 A7, D4 OE, E1 B6, E2 B8, E3 A8, E4 A6

## IC_TXS0102DCURG4
designator U?, comment TXS0102DCURG4
Voltage Level Translator Bidirectional 1 Circuit 2 Channel 24Mbps 8-VSSOP; Manufacturer: Texas Instruments; Manufacturer Part Number: TXS0102DCURG4; Case/Package: VSSOP8; Supplier-1: Mouser
footprint VSSOP-8_19.6_157_33X11_SMD (VSSOP)
pins: 1 B2, 2 GND, 3 VCCA, 4 A2, 5 A1, 6 OE, 7 VCCB, 8 B1

## IC_TXS0108EPW
designator U?, comment TXS0108EPW
TXS0108E 8-Bit Bi-directional, Level-Shifting, Voltage Translator / for Open-Drain and Push-Pull Applications; Manufacturer: Texas Instruments; Alternate Part Number-1: NA; Manufacturer Part Number: TXS0108EPW; Case/Package: TSSOP-20; Supplier-1: Mouser; Supplier Part Number-1: 595-TXS0108EPWRG4; Category: Integrated Circuit; Number of Pins: 20
footprint TSSOP20_25-59_292_12X65_SMT (Footprint not found)
pins: 1 A1, 2 VCCA, 3 A2, 4 A3, 5 A4, 6 A5, 7 A6, 8 A7, 9 A8, 10 OE, 11 GND, 12 B8, 13 B7, 14 B6, 15 B5, 16 B4, 17 B3, 18 B2, 19 VCCB, 20 B1

## IND_1.5uH-6A-20%-SMD
designator L?, comment WPN4020H1R5MT
Wire Wound SMD Power Inductors – WPN Series / Operating Temp. : -40℃~+125℃ (Including self-heating); Manufacturer: Sunlord; Mnaufcaturer Part Number: WPN4020H1R5MT; Case/Package: SMD; Supplier-1: NA
footprint IND_1616 (Inductor)
pins: 1, 2

## IND_1uF-0.5A-20%-0805
designator L?, comment CB2012T1R0M
1uH ±20% 500mA 150mΩ 0805 Inductors (SMD) RoHS; Manufacturer: Taiyo Yuden; Manufacturer Part Number: CB2012T1R0M; Case/Package: 0805; Supplier-1: LCSC
footprint IND_0805 (Inductor)
pins: 1, 2

## IND_1uH-3.8A-20%-1008
designator L?, comment DFE252010P-1R0M=P2
1µH Shielded Wirewound Inductor 3.8A 54mOhm Max 1008 (2520 Metric); Manufacturer: Murata Electronics; Manufacturer Part Number: DFE252010P-1R0M=P2; Case/Package: 1008; Supplier-1: Digikey
footprint IND_1008 (Inductor)
pins: 1, 2

## IND_4.7uH-0.9A-20%-SMD
designator L?, comment WPN201610H4R7MT
4.7uH ±20% 900mA 425mΩ SMD,2.0x1.6x1.0mm Power Inductors RoHS; Manufacturer: Sunlord; Manufacturer Part Number: WPN201610H4R7MT; Case/Package: SMD; Supplier-1: LCSC
footprint IND_62.9_110X86.6_SMD (Inductor)
pins: 1, 2

## IND_470nH-5A-20%-1008
designator L?, comment DFE252010P-R47M=P2
470nH Shielded Wirewound Inductor 5A 35mOhm Max 1008 (2520 Metric); Manufacturer: Murata Electronics; Manufacturer Part Number: DFE252010P-R47M=P2; Case/Package: 1008; Supplier-1: Digikey
footprint IND_1008 (Inductor)
pins: 1, 2

## LED_RED-2V-20mA-0805
designator DS?, comment RED LED
Red 631nm LED Indication - Discrete 2V 0805 (2012 Metric); Manufacturer: Vishay Lite-On; Manufacturer Part Number: LTST-C171KRKT; Case/Package: 0805; Supplier-1: SP ROAD
footprint LED_0805
pins: A ANODE, K CATHODE

## MH_3.5H_6D
designator MH?, comment Mounting Hole  (no BOM)
Manufacturer Part Number: NA; Case/Package: TH; Manufacturer: NA; Supplier-1: NA
footprint SOM_Mounting
pins: 1

## MOD_WF60-SMD
designator U?, comment WF60
Amp’ed RF Tech presents the WF60 WiFi dual / band module: 802.11abgn.; Alternate Part Number-1: NA; Manufacturer: Amp’ed; Manufacturer Part Number: WF60; Case/Package: SMD; Supplier-1: Arrow; Supplier Part Number-1: WF60; Category: Module; Number of Pins: 16
footprint MOD_WF60 (Footprint not found)
pins: 1 SDIO5, 2 SDIO2, 3 SDIO1, 4 SDIO0, 5 GND, 6 ANT 2.4GHz, 7 GND, 8 GND, 9 ANT 5GHz , 10 GND, 11 SDIO INT , 12 RESET, 13 PMUEN, 14 GND, 15 VIN, 16 LPO, 17 SDIO4, 18 SDIO3

## MOSFET-N_20V-0.9A-SOT-363
designator Q?, comment AO7800
DualNChannel 20V 900mA 900mV @ 250uA 300mΩ @ 900mA,4.5V 300mW SC-70-6(SOT-363) MOSFET RoHS; Manufacturer: Alpha & Omega Semicon; Mnaufacturer Part Number: AO7800; Case/Package: SC-70-6(SOT-363); Supplier-1: LCSC
footprint SOT363-6 (SOT363)
part A pins: 1 S1, 2 G1, 6 D1
part B pins: 3 D2, 4 S2, 5 G2
part A text: 1st
part B text: 2nd

## MOSFET-N_20V-2.9A-SOT-23
designator Q?, comment WNM2016-3/TR
N Channel 20V 2.9A 1V @ 250uA 47mΩ @ 3.6A,4.5V 700mW SOT-23(SOT-23-3) MOSFET RoHS; Manufacturer: WILLSEMI(Will Semicon); Manufacturer Part Number: WNM2016-3/TR; Case/Package: SOT-23(SOT-23-3); Supplier-1: LCSC
footprint SOT 23-3 (Case: SOT23)
pins: 1 G, 2 S, 3 D

## MOSFET-N_20V-820mA-SOT-323
designator Q?, comment WNM2021-3/TR
N Channel 20V 820mA 850mV @ 250uA 310mΩ @ 550mA,4.5V 310mW SOT-323(SC-70) MOSFET RoHS; Manufacturer: WILLSEMI(Will Semicon); Manufacturer Part Number: WNM2021-3/TR; Case/Package: SOT-323(SC-70); Supplier-1: LCSC
footprint SOT-323-3 (SOT Package)
pins: 1 G, 2 S, 3 D

## MOSFET-P_20V-5A-SOT23-3
designator Q?, comment AO3415A
P-Channel 20V 5A (Ta) 1.5W (Ta) Surface Mount SOT-23-3L; Manufacturer: Alpha & Omega Semiconductor Inc.; Manufacturer Part Number: AO3415A; Case/Package: SOT-23-3; Supplier-1: Digikey
footprint SOT 23-3 (Case: SOT23)
pins: 1 G, 2 S, 3 D

## MOSFET-P_20V-35A-1212-8
designator Q?, comment SI7615CDN-T1-GE3
P-Channel 20V 35A (Tc) 33W (Tc) Surface Mount PowerPAK® 1212-8; Manufacturer: Vishay Siliconix; Manufacturer Part Number: SI7615CDN-T1-GE3; Case/Package: PowerPAK® 1212-8; Supplier-1: Digikey
footprint PowerPAK_1212-8_SMD (Mosfet)
pins: 1 S, 2 S, 3 S, 4 G, 5 D

## MOSFET-P_50V-130mA-SOT-323
designator Q?, comment BSS84W-7-F
P-Channel 50V 130mA (Ta) 200mW (Ta) Surface Mount SOT-323; Manufacturer: Diodes Incorporated; Manufacturer Part Number: BSS84W-7-F; Case/Package: SOT-323; Supplier-1: Digikey
footprint SOT-323-3 (SOT Package)
pins: 1 G, 2 S, 3 D

## REG-ADJ_5.5V-2.5V-0.5A-SOT-23-6
designator U?, comment RT9041B-10GE
Linear Voltage Regulator IC 1 Output 500mA SOT-23-6; Manufacturer: Richtek USA Inc.; Manufacturer Part Number: RT9041B-10GE; Case/Package: SOT-23-6; Supplier-1: Digikey
footprint SOT23-6 (CASE: SOT)
pins: 1 VDD, 2 GND, 3 EN, 4 ADJ, 5 VOUT, 6 VIN

## REG-ADJ_5.5V-5.5V-1.25A-SOT-23-5
designator U?, comment SY6280AAC
SOT-23-5 PMIC - Power Distribution Switches RoHS; Manufacturer: Silergy Corp; Manufacturer Part Number: SY6280AAC; Case/Package: SOT-23-5; Supplier-1: LCSC
footprint SOT23-5 (CASE: SOT)
pins: 1 OUT, 2 GND, 3 ISET, 4 EN, 5 IN

## REG-ADJ_5.5V-5.5V-1A-6-WDFN
designator U?, comment RT8010GQW
Buck Switching Regulator IC Positive Adjustable 0.6V 1 Output 1A 6-WDFN Exposed Pad; Manufacturer: Richtek USA Inc.; Manufacturer Part Number: RT8010GQW; Case/Package: 6-WDFN; Supplier-1: Digikey
footprint WDFN-6_26_133X100_SMD (SMD Package)
pins: 1 NC, 2 EN, 3 VIN, 4 LX, 5 GND, 6 FB, 7 PAD

## REG_0.6~5V-5.5V-3A-TSOT-23-8
designator U?, comment MP2143DJ-LF-Z
Switching Voltage Regulators 3A, 5.5V, 1.2MHz Sync Stp-Dwn Swtchr; Manufacturer: Monolithic Power Systems (MPS); Manufacturer Part Number: MP2143DJ-LF-Z; Case/Package: TSOT-23-8; Supplier-1: Mouser
footprint SOT23-8 (Case-SOT)
pins: 1 PG, 2 VIN, 3 SW, 4 PGND, 5 OUT, 6 AGND, 7 FB, 8 EN

## REG_0.9V-5.5V-0.3A-DFN-4
designator U?, comment TCR3UM09A,LF
LDO Voltage Regulators LDO Voltage Reg 300mA 420mW 0.9V; Manufacturer: Toshiba; Manufacturer Part Number: TCR3UM09A,LF; Case/Package: DFN-4; Supplier-1: Mouser
footprint DFN-4 (DFN Package)
pins: 1 VOUT, 2 GND, 3 CTRL, 4 VIN, 5 GND

## REG_1.2V-6V-0.15A-SOT-25-5
designator U?, comment XC6219B122MR-G
LDO Voltage Regulators; Manufacturer: Torex Semiconductor; Manufacturer Part Number: XC6219B122MR-G; Case/Package: SOT-25-5; Supplier-1: Mouser
footprint SOT23-5 (CASE: SOT)
pins: 1 VIN, 2 GND, 3 EN, 4 NC, 5 VOUT

## REG_1.8V-300mA-5.5V-SC70-5
designator U?, comment RT9193-18GU5
Linear Voltage Regulator IC 1 Output 300mA SC-70-5; Manufacturer: Richtek USA Inc.; Manufacturer Part Number: RT9193-18GU5; Case/Package: SC70-5; Supplier-1: Digikey
footprint SC70-5
pins: 1 VIN, 2 GND, 3 EN, 4 BP, 5 VOUT

## REG_1V-5.5V-0.15A-SC-70-5
designator U?, comment MIC5365-1.0YC5-TR
LDO Voltage Regulators Ultra Small Single 150mA LDO; Manufacturer: Microchip Technology / Micrel; Manuafcturer Part Number: MIC5365-1.0YC5-TR; Case/Package: SC-70-5; Supplier-1: Mouser
footprint SC70-5
pins: 1 VIN, 2 GND, 3 EN, 4 NC, 5 VOUT

## REG_2.5V-5.5V-0.3A-SC-70-5
designator U?, comment RT9193-2HGU5
Fixed LDO Voltage Regulator, 2.5V to 5.5V, 220mV Dropout, 2.85Vout, 300mAout, SC-70-5; Manufacturer: RICHTEK; Manufacturer Part Number: RT9193-2HGU5; Case/Package: SC-70; Supplier-1: Element 14
footprint SC70-5
pins: 1 VIN, 2 GND, 3 EN, 4 NC, 5 VOUT

## REG_3.3V-5.5V-300mA-SC-70-5
designator U?, comment RT9193-33PU5
SC-70-5 Dropout Regulators(LDO) RoHS; Manufacturer: Richtek Tech; Manufacturer Part Number: RT9193-33PU5; Case/Package: SC-70-5; Supplier-1: LCSC
footprint SC70-5
pins: 1 VIN, 2 GND, 3 EN, 4 BP, 5 VOUT

## REG_3.3V-26V-8A-QFN-12
designator U?, comment NB680GD-Z
Switching Voltage Regulators 26V Fixed 3.3 V-8A Sync Buck Converter; Manufacturer: Monolithic Power Systems (MPS); Manufacturer Part Number: NB680GD-Z; Case/Package: QFN-12; Supplier-1: Mouser
footprint QFN-12_19_118X118_SMD (QFN Package)
pins: 1 VIN, 2 PGND, 3 PG, 4 CLK, 5 VOUT, 6 LDO, 7 SW, 8 BST, 9 VCC, 10 AGND, 11 EN, 12 EN_CLK

## REG_3V-5.5V-0.3A-SC-70-5
designator U?, comment RT9193-30PU5/3V
The RT9193 is designed for portable RF and wireless / applications with demanding performance and space / requirements; Manufcaturer: RICHTEK; Manufacturer Part Number: RT9193-30PU5/3V; Case/Package: SC-70-5; Supplier-1: NA
footprint SC70-5
pins: 1 VIN, 2 GND, 3 EN, 4 NC, 5 VOUT

## REG_5.5V-0~5.1V-0.5A-2.55W-DFN-6
designator U?, comment LD39050PUR
Adjustable 5.5V 0.8V 500mA DFN-6 Linear Voltage Regulators RoHS; Manufacturer: STMicroelectronics; Alternate Part Number-1: NA; Manufacturer Part Number: LD39050PUR; Case/Package: DFN-6; Supplier-1: LCSC; Supplier Part Number-1: C222094; Category: Regulators; Number of Pins: 6
footprint DFN-6_37.4_165_33X15_SMD (Footprint not found)
pins: 1 EN, 2 GND, 3 PG, 4 VOUT, 5 ADJ, 6 VIN, 7 GND

## RES_0.1R-0.1W-1%-0201
designator R?, comment 0.1R
100 mOhms ±1% 0.1W, 1/10W Chip Resistor 0201 (0603 Metric) Current Sense Thick Film; Manufacturer: Rohm Semiconductor; Manufacturer Part Number: UCR006YVPFLR100; Casse/Package: 0201; Supplier-1: Digikey
footprint RES_0201
pins: 1, 2

## RES_0.1R-0.1W-1%-0402
designator R?, comment 0.1R
100 mOhms ±1% 0.1W, 1/10W Chip Resistor 0402 (1005 Metric) Current Sense, Moisture Resistant Thick Film; Manufacturer: Samsung Electro-Mechanics; Manufacturer Part Number: RUT1005FR100CS; Casse/Package: 0402; Supplier-1: Digikey
footprint RES_0402
pins: 1, 2

## RES_0.1R-0.1W-1%-0603
designator R?, comment 0.1R
100 mOhms ±1% 0.1W, 1/10W Chip Resistor 0603 (1608 Metric) Automotive AEC-Q200, Current Sense Thick Film; Manufacturer: Panasonic Electronic Components; Manufacturer Part Number: ERJ-3RSFR10V; Casse/Package: 0603; Supplier-1: Digikey
footprint RES_0603 (CASE: 0603)
pins: 1, 2

## RES_0R-0.1W-1%-0402
designator R?, comment 0R
0 Ohms Jumper 0.1W, 1/10W Chip Resistor 0402 (1005 Metric) Automotive AEC-Q200 Thick Film; Manufacturer: Panasonic Electronic Components; Manufacturer Part Number: ERJ-2GE0R00X; Case/Package: 0402; Supplier-1: Digikey
footprint RES_0402
pins: 1, 2

## RES_0R-0.1W-1%-0603
designator R?, comment 0R
0 Ohms Jumper 0.1W, 1/10W Chip Resistor 0603 (1608 Metric) Thick Film; Manufacturer: Yageo; Manufacturer Part Number: RC0603JR-070RL; Case/Package: 0603; Supplier-1: Digikey
footprint RES_0603 (CASE: 0603)
pins: 1, 2

## RES_0R-0.05W-1%-0201
designator R?, comment 0R
0 Ohms Jumper 0.05W, 1/20W Chip Resistor 0201 (0603 Metric) Automotive AEC-Q200 Thick Film; Manufacturer: Bourns Inc.; Manufacturer Part Number: CR0201AJ/-000GLF; Case/Package: 0201; Supplier-1: Digikey
footprint RES_0201
pins: 1, 2

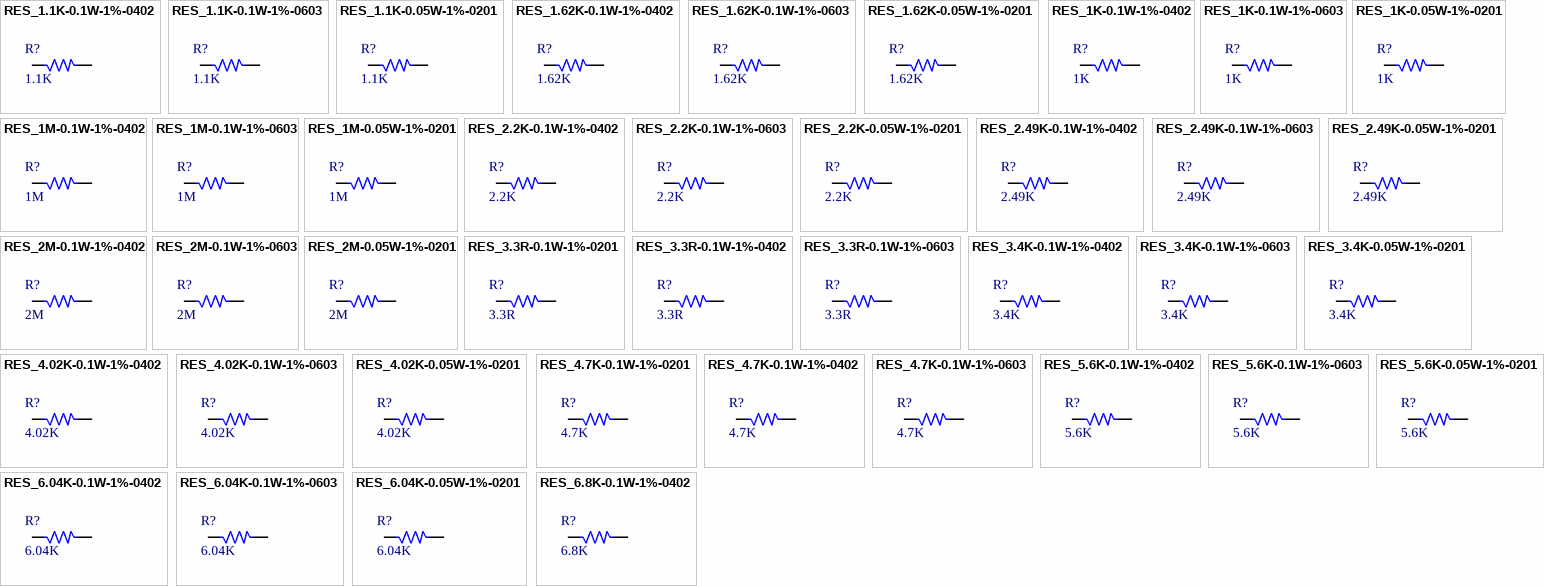
[diagram p8: symbols RES_1.1K-0.1W-1%-0402 to RES_6.8K-0.1W-1%-0402]

## RES_1.1K-0.1W-1%-0402
designator R?, comment 1.1K
1.1 kOhms ±1% 0.1W, 1/10W Chip Resistor 0402 (1005 Metric) Automotive AEC-Q200 Thick Film; Manufacturer: Panasonic Electronic Components; Manufacturer Part Number: ERJ-2RKF1101X; Case/Package: 0402; Supplier-1: Digikey
footprint RES_0402
pins: 1, 2

## RES_1.1K-0.1W-1%-0603
designator R?, comment 1.1K
47 kOhms ±1% 0.1W, 1/10W Chip Resistor 0603 (1608 Metric) Thick Film; Manufacturer: Yageo; Manufacturer Part Number: RC0603FR-0747KL; Case/Package: 0603; Supplier-1: Digikey
footprint RES_0603 (CASE: 0603)
pins: 1, 2

## RES_1.1K-0.05W-1%-0201
designator R?, comment 1.1K
1.1 kOhms ±1% 0.05W, 1/20W Chip Resistor 0201 (0603 Metric) Automotive AEC-Q200 Thick Film; Manufacturer: Panasonic Electronic Components; Manufacturer Part Number: ERJ-1GNF1101C; Case/Package: 0201; Supplier-1: Digikey
footprint RES_0201
pins: 1, 2

## RES_1.62K-0.1W-1%-0402
designator R?, comment 1.62K
1.62 kOhms ±1% 0.1W, 1/10W Chip Resistor 0402 (1005 Metric) Automotive AEC-Q200 Thick Film; Manufacturer: Panasonic Electronic Components; Manufacturer Part Number: ERJ-2RKF1621X; Case/Package: 0402; Supplier-1: Digikey
footprint RES_0402
pins: 1, 2

## RES_1.62K-0.1W-1%-0603
designator R?, comment 1.62K
1.62 kOhms ±1% 0.1W, 1/10W Chip Resistor 0603 (1608 Metric) Automotive AEC-Q200 Thick Film; Manufacturer: Stackpole Electronics Inc; Manufacturer Part Number: RMCF0603FT1K62; Case/Package: 0603; Supplier-1: Digikey
footprint RES_0603 (CASE: 0603)
pins: 1, 2

## RES_1.62K-0.05W-1%-0201
designator R?, comment 1.62K
1.62 kOhms ±1% 0.05W, 1/20W Chip Resistor 0201 (0603 Metric) Automotive AEC-Q200 Thick Film; Manufacturer: Panasonic Electronic Components; Manufacturer Part Number: ERJ-1GNF1621C; Case/Package: 0201; Supplier-1: Digikey
footprint RES_0201
pins: 1, 2

## RES_1K-0.1W-1%-0402
designator R?, comment 1K
1 kOhms ±1% 0.1W, 1/10W Chip Resistor 0402 (1005 Metric) Anti-Sulfur Thin Film; Manufacturer: Vishay Beyschlag/Draloric/BC Components; Manufacturer Part Number: MCS04020C1001FE000; Case/Package: 0402; Supplier-1: Digikey
footprint RES_0402
pins: 1, 2

## RES_1K-0.1W-1%-0603
designator R?, comment 1K
1 kOhms ±1% 0.1W, 1/10W Chip Resistor 0603 (1608 Metric) Thick Film; Manufacturer: Yageo; Manufacturer Part Number: RC0603FR-071KL; Case/Package: 0603; Supplier-1: Digikey
footprint RES_0603 (CASE: 0603)
pins: 1, 2

## RES_1K-0.05W-1%-0201
designator R?, comment 1K
1 kOhms ±1% 0.05W, 1/20W Chip Resistor 0201 (0603 Metric) Thick Film; Manufacturer: Yageo; Manufacturer Part Number: RC0201FR-071KL; Case/Package: 0201; Supplier-1: Digikey
footprint RES_0201
pins: 1, 2

## RES_1M-0.1W-1%-0402
designator R?, comment 1M
1 MOhms ±1% 0.1W, 1/10W Chip Resistor 0402 (1005 Metric) Anti-Sulfur Thin Film; Manufacturer: Vishay Beyschlag/Draloric/BC Components; Manufacturer Part Number: MCS04020C1004FE000; Case/Package: 0402; Supplier-1: Digikey
footprint RES_0402
pins: 1, 2

## RES_1M-0.1W-1%-0603
designator R?, comment 1M
1 MOhms ±1% 0.1W, 1/10W Chip Resistor 0603 (1608 Metric) Thick Film; Manufacturer: Yageo; Manufacturer Part Number: RC0603FR-071ML; Case/Package: 0603; Supplier-1: Digikey
footprint RES_0603 (CASE: 0603)
pins: 1, 2

## RES_1M-0.05W-1%-0201
designator R?, comment 1M
1 MOhms ±1% 0.05W, 1/20W Chip Resistor 0201 (0603 Metric) Thick Film; Manufacturer: Yageo; Manufacturer Part Number: RC0201FR-071ML; Case/Package: 0201; Supplier-1: Digikey
footprint RES_0201
pins: 1, 2

## RES_2.2K-0.1W-1%-0402
designator R?, comment 2.2K
2.2 kOhms ±1% 0.1W, 1/10W Chip Resistor 0402 (1005 Metric) Automotive AEC-Q200 Thick Film; Manufacturer: Panasonic Electronic Components; Manufacturer Part Number: ERJ-2RKF2201X; Case/Package: 0402; Supplier-1: Digikey
footprint RES_0402
pins: 1, 2

## RES_2.2K-0.1W-1%-0603
designator R?, comment 2.2K
2.2 kOhms ±1% 0.1W, 1/10W Chip Resistor 0603 (1608 Metric) Thick Film; Manufacturer: Yageo; Manufacturer Part Number: RC0603FR-072K2L; Case/Package: 0603; Supplier-1: Digikey
footprint RES_0603 (CASE: 0603)
pins: 1, 2

## RES_2.2K-0.05W-1%-0201
designator R?, comment 2.2K
2.2 kOhms ±1% 0.05W, 1/20W Chip Resistor 0201 (0603 Metric) Thick Film; Manufacturer: Stackpole Electronics Inc; Manufacturer Part Number: RMCF0201FT2K20; Case/Package: 0201; Supplier-1: Digikey
footprint RES_0201
pins: 1, 2

## RES_2.49K-0.1W-1%-0402
designator R?, comment 2.49K
2.49 kOhms ±1% 0.1W, 1/10W Chip Resistor 0402 (1005 Metric) Automotive AEC-Q200 Thick Film; Manufacturer: Panasonic Electronic Components; Manufacturer Part Number: ERJ-2RKF2491X; Case/Package: 0402; Supplier-1: Digikey
footprint RES_0402
pins: 1, 2

## RES_2.49K-0.1W-1%-0603
designator R?, comment 2.49K
2.49 kOhms ±1% 0.1W, 1/10W Chip Resistor 0603 (1608 Metric) Automotive AEC-Q200 Thick Film; Manufacturer: Stackpole Electronics Inc; Manufacturer Part Number: RMCF0603FT2K49; Case/Package: 0603; Supplier-1: Digikey
footprint RES_0603 (CASE: 0603)
pins: 1, 2

## RES_2.49K-0.05W-1%-0201
designator R?, comment 2.49K
2.49 kOhms ±1% 0.05W, 1/20W Chip Resistor 0201 (0603 Metric) Automotive AEC-Q200 Thick Film; Manufacturer: Panasonic Electronic Components; Manufacturer Part Number: ERJ-1GNF2491C; Case/Package: 0201; Supplier-1: Digikey
footprint RES_0201
pins: 1, 2

## RES_2M-0.1W-1%-0402
designator R?, comment 2M
2 MOhms ±1% 0.1W, 1/10W Chip Resistor 0402 (1005 Metric) Anti-Sulfur Thin Film; Manufacturer: Vishay Beyschlag/Draloric/BC Components; Manufacturer Part Number: MCS04020C2004FE000; Case/Package: 0402; Supplier-1: Digikey
footprint RES_0402
pins: 1, 2

## RES_2M-0.1W-1%-0603
designator R?, comment 2M
2 MOhms ±1% 0.1W, 1/10W Chip Resistor 0603 (1608 Metric) Automotive AEC-Q200, Moisture Resistant Thick Film; Manufacturer: KOA Speer Electronics, Inc.; Manufacturer Part Number: RK73H1JTTD2004F; Case/Package: 0603; Supplier-1: Digikey
footprint RES_0603 (CASE: 0603)
pins: 1, 2

## RES_2M-0.05W-1%-0201
designator R?, comment 2M
2 MOhms ±1% 0.05W, 1/20W Chip Resistor 0201 (0603 Metric) Thick Film; Manufacturer: Yageo; Manufacturer Part Number: RC0201FR-072ML; Case/Package: 0201; Supplier-1: Digikey
footprint RES_0201
pins: 1, 2

## RES_3.3R-0.1W-1%-0201
designator R?, comment 3.3R
3.3 Ohms ±1% 0.05W, 1/20W Chip Resistor 0201 (0603 Metric) Thick Film; Manufacturer: Vishay Dale; Manufacturer Part Number: CRCW02013R30FXED; Case/Package: 0201; Supplier-1: Digikey
footprint RES_0201
pins: 1, 2

## RES_3.3R-0.1W-1%-0402
designator R?, comment 3.3R
3.3 Ohms ±1% 0.1W, 1/10W Chip Resistor 0402 (1005 Metric) Anti-Sulfur, Automotive AEC-Q200 Thick Film; Manufacturer: Panasonic Electronic Components; Manufacturer Part Number: ERJ-U02F3R30X; Case/Package: 0402; Supplier-1: Digikey
footprint RES_0402
pins: 1, 2

## RES_3.3R-0.1W-1%-0603
designator R?, comment 3.3R
3.3 Ohms ±1% 0.1W, 1/10W Chip Resistor 0603 (1608 Metric) Automotive AEC-Q200, Current Sense Thick Film; Manufacturer: Panasonic Electronic Components; Manufacturer Part Number: ERJ-3RQF3R3V; Case/Package: 0603; Supplier-1: Digikey
footprint RES_0603 (CASE: 0603)
pins: 1, 2

## RES_3.4K-0.1W-1%-0402
designator R?, comment 3.4K
3.4 kOhms ±1% 0.1W, 1/10W Chip Resistor 0402 (1005 Metric) Automotive AEC-Q200 Thick Film; Manufacturer: Panasonic Electronic Components; Manufacturer Part Number: ERJ-2RKF3401X; Case/Package: 0402; Supplier-1: Digikey
footprint RES_0402
pins: 1, 2

## RES_3.4K-0.1W-1%-0603
designator R?, comment 3.4K
3.4 kOhms ±1% 0.1W, 1/10W Chip Resistor 0603 (1608 Metric) Automotive AEC-Q200 Thick Film; Manufacturer: Stackpole Electronics Inc; Manufacturer Part Number: RMCF0603FT3K40; Case/Package: 0603; Supplier-1: Digikey
footprint RES_0603 (CASE: 0603)
pins: 1, 2

## RES_3.4K-0.05W-1%-0201
designator R?, comment 3.4K
3.4 kOhms ±1% 0.05W, 1/20W Chip Resistor 0201 (0603 Metric) Thick Film; Manufacturer: Yageo; Manufacturer Part Number: RC0201FR-073K4L; Case/Package: 0201; Supplier-1: Digikey
footprint RES_0201
pins: 1, 2

## RES_4.02K-0.1W-1%-0402
designator R?, comment 4.02K
4.02 kOhms ±1% 0.1W, 1/10W Chip Resistor 0402 (1005 Metric) Automotive AEC-Q200 Thick Film; Manufacturer: Panasonic Electronic Components; Manufacturer Part Number: ERJ-2RKF4021X; Case/Package: 0402; Supplier-1: Digikey
footprint RES_0402
pins: 1, 2

## RES_4.02K-0.1W-1%-0603
designator R?, comment 4.02K
4.02 kOhms ±1% 0.1W, 1/10W Chip Resistor 0603 (1608 Metric) Automotive AEC-Q200 Thick Film; Manufacturer: Stackpole Electronics Inc; Manufacturer Part Number: RMCF0603FT4K02; Case/Package: 0603; Supplier-1: Digikey
footprint RES_0603 (CASE: 0603)
pins: 1, 2

## RES_4.02K-0.05W-1%-0201
designator R?, comment 4.02K
4.02 kOhms ±1% 0.05W, 1/20W Chip Resistor 0201 (0603 Metric) Thick Film; Manufacturer: Yageo; Manufacturer Part Number: RC0201FR-074K02L; Case/Package: 0201; Supplier-1: Digikey
footprint RES_0201
pins: 1, 2

## RES_4.7K-0.1W-1%-0201
designator R?, comment 4.7K
4.02 kOhms ±1% 0.05W, 1/20W Chip Resistor 0201 (0603 Metric) Thick Film; Manufacturer: Yageo; Manufacturer Part Number: RC0201FR-074K02L; Case/Package: 0201; Supplier-1: Digikey
footprint RES_0201
pins: 1, 2

## RES_4.7K-0.1W-1%-0402
designator R?, comment 4.7K
4.7 kOhms ±1% 0.1W, 1/10W Chip Resistor 0402 (1005 Metric) Automotive AEC-Q200 Thick Film; Manufacturer: Panasonic Electronic Components; Manufacturer Part Number: ERJ-2RKF4701X; Case/Package: 0402; Supplier-1: Digikey
footprint RES_0402
pins: 1, 2

## RES_4.7K-0.1W-1%-0603
designator R?, comment 4.7K
4.7 kOhms ±1% 0.1W, 1/10W Chip Resistor 0603 (1608 Metric) Automotive AEC-Q200, Moisture Resistant Thick Film; Manufacturer: TE Connectivity Passive Product; Manufacturer Part Number: CRGCQ0603F4K7; Case/Package: 0603; Supplier-1: Digikey
footprint RES_0603 (CASE: 0603)
pins: 1, 2

## RES_5.6K-0.1W-1%-0402
designator R?, comment 5.6K
5.6 kOhms ±1% 0.1W, 1/10W Chip Resistor 0402 (1005 Metric) Automotive AEC-Q200, Moisture Resistant Thick Film; Manufacturer: KOA Speer Electronics, Inc.; Manufacturer Part Number: RK73H1ETTP5601F; Case/Package: 0402; Supplier-1: Digikey
footprint RES_0402
pins: 1, 2

## RES_5.6K-0.1W-1%-0603
designator R?, comment 5.6K
5.6 kOhms ±1% 0.1W, 1/10W Chip Resistor 0603 (1608 Metric) Automotive AEC-Q200, Moisture Resistant Thick Film; Manufacturer: TE Connectivity Passive Product; Manufacturer Part Number: CRGCQ0603F5K6; Case/Package: 0603; Supplier-1: Digikey
footprint RES_0603 (CASE: 0603)
pins: 1, 2

## RES_5.6K-0.05W-1%-0201
designator R?, comment 5.6K
5.6 kOhms ±1% 0.05W, 1/20W Chip Resistor 0201 (0603 Metric) Automotive AEC-Q200 Thick Film; Manufacturer: Panasonic Electronic Components; Manufacturer Part Number: ERJ-1GNF5601C; Case/Package: 0201; Supplier-1: Digikey
footprint RES_0201
pins: 1, 2

## RES_6.04K-0.1W-1%-0402
designator R?, comment 6.04K
6.04 kOhms ±1% 0.1W, 1/10W Chip Resistor 0402 (1005 Metric) Automotive AEC-Q200, Moisture Resistant Thick Film; Manufacturer: KOA Speer Electronics, Inc.; Manufacturer Part Number: RK73H1ETTP6041F; Case/Package: 0402; Supplier-1: Digikey
footprint RES_0402
pins: 1, 2

## RES_6.04K-0.1W-1%-0603
designator R?, comment 6.04K
6.04 kOhms ±1% 0.1W, 1/10W Chip Resistor 0603 (1608 Metric) Automotive AEC-Q200 Thick Film; Manufacturer: Stackpole Electronics Inc; Manufacturer Part Number: RMCF0603FT6K04; Case/Package: 0603; Supplier-1: Digikey
footprint RES_0603 (CASE: 0603)
pins: 1, 2

## RES_6.04K-0.05W-1%-0201
designator R?, comment 6.04K
6.04 kOhms ±1% 0.05W, 1/20W Chip Resistor 0201 (0603 Metric) Thick Film; Manufacturer: Panasonic Electronic Components; Manufacturer Part Number: ERJ-1GEF6041C; Case/Package: 0201; Supplier-1: Digikey
footprint RES_0201
pins: 1, 2

## RES_6.8K-0.1W-1%-0402
designator R?, comment 6.8K
6.8 kOhms ±1% 0.1W, 1/10W Chip Resistor 0402 (1005 Metric) Anti-Sulfur Thin Film; Manufacturer: Vishay Beyschlag/Draloric/BC Components; Manufacturer Part Number: MCS04020C6801FE000; Supplier-1: Digikey; Case/Package: 0402
footprint RES_0402
pins: 1, 2

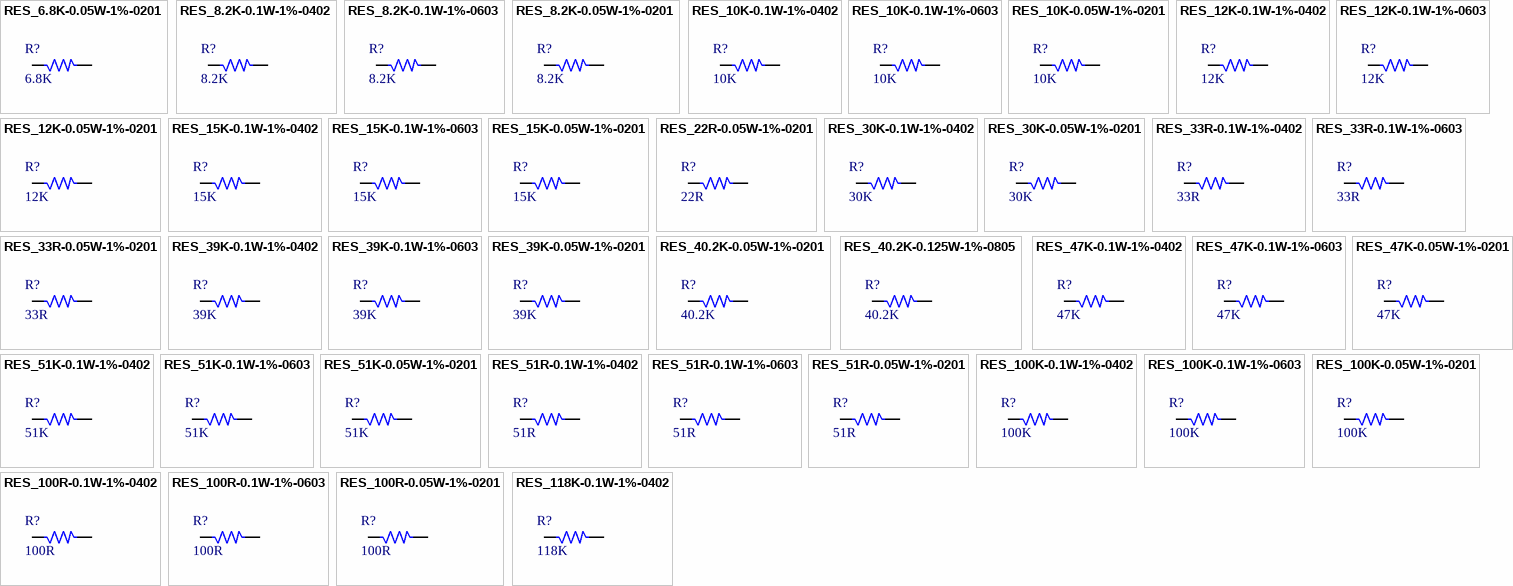
[diagram p9: symbols RES_6.8K-0.05W-1%-0201 to RES_118K-0.1W-1%-0402]

## RES_6.8K-0.05W-1%-0201
designator R?, comment 6.8K
6.8 kOhms ±1% 0.05W, 1/20W Chip Resistor 0201 (0603 Metric) Thick Film; Manufacturer: Yageo; Manufacturer Part Number: RC0201FR-076K8L; Supplier-1: Digikey; Case/Package: 0201
footprint RES_0201
pins: 1, 2

## RES_8.2K-0.1W-1%-0402
designator R?, comment 8.2K
8.2 kOhms ±1% 0.1W, 1/10W Chip Resistor 0402 (1005 Metric) Automotive AEC-Q200, Moisture Resistant Thick Film; Manufacturer: KOA Speer Electronics, Inc.; Manufacturer Part Number: RK73H1ETTP8201F; Case/Package: 0402; Supplier-1: Digikey
footprint RES_0402
pins: 1, 2

## RES_8.2K-0.1W-1%-0603
designator R?, comment 8.2K
8.2 kOhms ±1% 0.1W, 1/10W Chip Resistor 0603 (1608 Metric) Automotive AEC-Q200 Thick Film; Manufacturer: Stackpole Electronics Inc; Manufacturer Part Number: RMCF0603FT8K20; Case/Package: 0603; Supplier-1: Digikey
footprint RES_0603 (CASE: 0603)
pins: 1, 2

## RES_8.2K-0.05W-1%-0201
designator R?, comment 8.2K
8.2 kOhms ±1% 0.05W, 1/20W Chip Resistor 0201 (0603 Metric) Thick Film; Manufacturer: Yageo; Manufacturer Part Number: RC0201FR-078K2L; Case/Package: 0201; Supplier-1: Digikey
footprint RES_0201
pins: 1, 2

## RES_10K-0.1W-1%-0402
designator R?, comment 10K
10 kOhms ±1% 0.1W, 1/10W Chip Resistor 0402 (1005 Metric) Anti-Sulfur Thin Film; Manufacturer: Vishay Beyschlag/Draloric/BC Components; Manufacturer Part Number: MCS04020C1002FE000; Case/Package: 0402; Supplier-1: Digikey
footprint RES_0402
pins: 1, 2

## RES_10K-0.1W-1%-0603
designator R?, comment 10K
10 kOhms ±1% 0.1W, 1/10W Chip Resistor 0603 (1608 Metric) Thick Film; Manufacturer: Yageo; Manufacturer Part Number: RC0603FR-0710KL; Case/Package: 0603; Supplier-1: Digikey
footprint RES_0603 (CASE: 0603)
pins: 1, 2

## RES_10K-0.05W-1%-0201
designator R?, comment 10K
10 kOhms ±1% 0.05W, 1/20W Chip Resistor 0201 (0603 Metric) Thick Film; Manufacturer: Stackpole Electronics Inc; Manufacturer Part Number: RMCF0201FT10K0; Case/Package: 0201; Supplier-1: Digikey
footprint RES_0201
pins: 1, 2

## RES_12K-0.1W-1%-0402
designator R?, comment 12K
12 kOhms ±1% 0.1W, 1/10W Chip Resistor 0402 (1005 Metric) Anti-Sulfur Thin Film; Manufacturer: Vishay Beyschlag/Draloric/BC Components; Manufacturer Part Number: MCS04020C1202FE000; Case/Package: 0402; Supplier-1: Digikey
footprint RES_0402
pins: 1, 2

## RES_12K-0.1W-1%-0603
designator R?, comment 12K
12 kOhms ±1% 0.1W, 1/10W Chip Resistor 0603 (1608 Metric) Thick Film; Manufacturer: TE Connectivity Passive Product; Manufacturer Part Number: CRG0603F12K; Case/Package: 0603; Supplier-1: Digikey
footprint RES_0603 (CASE: 0603)
pins: 1, 2

## RES_12K-0.05W-1%-0201
designator R?, comment 12K
12 kOhms ±1% 0.05W, 1/20W Chip Resistor 0201 (0603 Metric) Thick Film; Manufacturer: Yageo; Manufacturer Part Number: RC0201FR-0712KL; Case/Package: 0201; Supplier-1: Digikey
footprint RES_0201
pins: 1, 2

## RES_15K-0.1W-1%-0402
designator R?, comment 15K
15 kOhms ±1% 0.1W, 1/10W Chip Resistor 0402 (1005 Metric) Automotive AEC-Q200 Thick Film; Manufacturer: Panasonic Electronic Components; Manufacturer Part Number: ERJ-2RKF1502X; Suplier-1: Digikey; Case/Package: 0402
footprint RES_0402
pins: 1, 2

## RES_15K-0.1W-1%-0603
designator R?, comment 15K
15 kOhms ±1% 0.1W, 1/10W Chip Resistor 0603 (1608 Metric) Thick Film; Manufacturer: Yageo; Manufacturer Part Number: RC0603FR-0715KL; Suplier-1: Digikey; Case/Package: 0603
footprint RES_0603 (CASE: 0603)
pins: 1, 2

## RES_15K-0.05W-1%-0201
designator R?, comment 15K
15 kOhms ±1% 0.05W, 1/20W Chip Resistor 0201 (0603 Metric) Thick Film; Manufacturer: Stackpole Electronics Inc; Manufacturer Part Number: RMCF0201FT15K0; Suplier-1: Digikey; Case/Package: 0201
footprint RES_0201
pins: 1, 2

## RES_22R-0.05W-1%-0201
designator R?, comment 22R
22 Ohms ±1% 0.05W, 1/20W Chip Resistor 0201 (0603 Metric) Moisture Resistant Thick Film; Manufacturer: Yageo; Manufacturer Part Number: RC0201FR-0722RL; Case/Package: 0201; Supplier-1: Digikey
footprint RES_0201
pins: 1, 2

## RES_30K-0.1W-1%-0402
designator R?, comment 30K
30 kOhms ±1% 0.1W, 1/10W Chip Resistor 0402 (1005 Metric) Automotive AEC-Q200, Moisture Resistant Thick Film; Manufacturer: KOA Speer Electronics, Inc.; Manufacturer Part Number: RK73H1ETTP3002F; Case/Package: 0402; Supplier-1: Digikey
footprint RES_0402
pins: 1, 2

## RES_30K-0.05W-1%-0201
designator R?, comment 30K
30 kOhms ±1% 0.05W, 1/20W Chip Resistor 0201 (0603 Metric) Thick Film; Manufacturer: KOA Speer Electronics, Inc.; Manufacturer Part Number: CRCW020130K0FKED; Case/Package: 0201; Supplier-1: Digikey
footprint RES_0201
pins: 1, 2

## RES_33R-0.1W-1%-0402
designator R?, comment 33R
33 Ohms ±1% 0.1W, 1/10W Chip Resistor 0402 (1005 Metric) Automotive AEC-Q200 Thick Film; Manufacturer: Panasonic Electronic Components; Manufacturer Part Number: ERJ-2RKF33R0X; Case/Package: 0402; Supplier-1: Digikey
footprint RES_0402
pins: 1, 2

## RES_33R-0.1W-1%-0603
designator R?, comment 33R
33 Ohms ±1% 0.1W, 1/10W Chip Resistor 0603 (1608 Metric) Thick Film; Manufacturer: Yageo; Manufacturer Part Number: RC0603FR-0733RL; Case/Package: 0603; Supplier-1: Digikey
footprint RES_0603 (CASE: 0603)
pins: 1, 2

## RES_33R-0.05W-1%-0201
designator R?, comment 33R
33 Ohms ±1% 0.05W, 1/20W Chip Resistor 0201 (0603 Metric) Thick Film; Manufacturer: Yageo; Manufacturer Part Number: RC0201FR-0733RL; Case/Package: 0201; Supplier-1: Digikey
footprint RES_0201
pins: 1, 2

## RES_39K-0.1W-1%-0402
designator R?, comment 39K
39 kOhms ±1% 0.1W, 1/10W Chip Resistor 0402 (1005 Metric) Automotive AEC-Q200, Moisture Resistant Thick Film; Manufacturer: KOA Speer Electronics, Inc.; Manufacturer Part Number: RK73H1ETTP3902F; Case/Package: 0402; Supplier-1: Digikey
footprint RES_0402
pins: 1, 2

## RES_39K-0.1W-1%-0603
designator R?, comment 39K
39 kOhms ±1% 0.1W, 1/10W Chip Resistor 0603 (1608 Metric) Automotive AEC-Q200, Moisture Resistant Thick Film; Manufacturer: TE Connectivity Passive Product; Manufacturer Part Number: CRGCQ0603F39K; Case/Package: 0603; Supplier-1: Digikey
footprint RES_0603 (CASE: 0603)
pins: 1, 2

## RES_39K-0.05W-1%-0201
designator R?, comment 39K
39 kOhms ±1% 0.05W, 1/20W Chip Resistor 0201 (0603 Metric) Thick Film; Manufacturer: Yageo; Manufacturer Part Number: RC0201FR-0739KL; Case/Package: 0201; Supplier-1: Digikey
footprint RES_0201
pins: 1, 2

## RES_40.2K-0.05W-1%-0201
designator R?, comment 40.2K
40.2 kOhms ±1% 0.05W, 1/20W Chip Resistor 0201 (0603 Metric) Automotive AEC-Q200, Moisture Resistant Thick Film; Manufacturer: Yageo; Manufacturer Part Number: AC0201FR-0740K2L; Case/Package: 0201; Supplier-1: Digikey
footprint RES_0201
pins: 1, 2

## RES_40.2K-0.125W-1%-0805
designator R?, comment 40.2K
40.2 kOhms ±1% 0.125W, 1/8W Chip Resistor 0805 (2012 Metric) Automotive AEC-Q200 Thick Film; Manufacturer: TE Connectivity; Manufacturer Part Number: RMCF0805FT40K2; Alternate Part Number-1: NA; Case/Package: 0805; Supplier-1: SIRICOM; Supplier Part Number-1: WR08X4022FTL; Category: Resistor; Number of Pins: 2
footprint RES_0805 (Footprint not found)
pins: 1, 2